# EAGLE library part 691321300010 (library Terminal_Blocks_Connectors_rev15e)
WR-TBL Serie 321 - 3.81mm Vertical PCB Header , 10 pins=>Code : Con_TBL_Pluggable_3.81_PCB_THT_Simple_691321300010 <http://katalog.we-online.de/media/images/eican/Con_TBL_Pluggable_3.81_PCB_THT_Simple_6913213000xx_pf2.jpg> Details see: http://katalog.we-online.de/en/em/691_321_300_0xx Created 2014-06-19, Karrer Zheng 2014 (C) Würth Elektronik
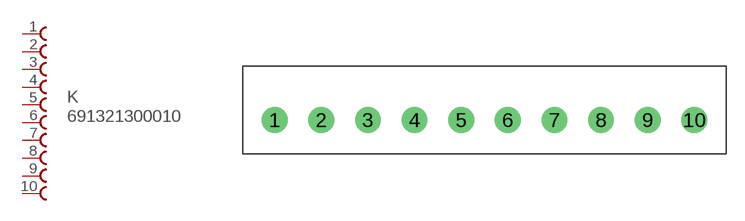
[diagram p21: symbol with the pads of 691321300010; footprint 691321300010]

Designator prefix K

## 691321300010  [691321300010]
1  1  pas
2  2  pas
3  3  pas
4  4  pas
5  5  pas
6  6  pas
7  7  pas
8  8  pas
9  9  pas
10  10  pas

## Footprint 691321300010 (pad centres in mm)
WR-TBL Serie 321 - 3.81mm Vertical PCB Header , 10 Pins
drill 1.4: 1 -15.24,0; 2 -11.43,0; 3 -7.62,0; 4 -3.81,0; 5 0,0; 6 3.81,0; 7 7.62,0; 8 11.43,0; 9 15.24,0; 10 19.05,0